# EAGLE library part VNH3SP30 (library parts)
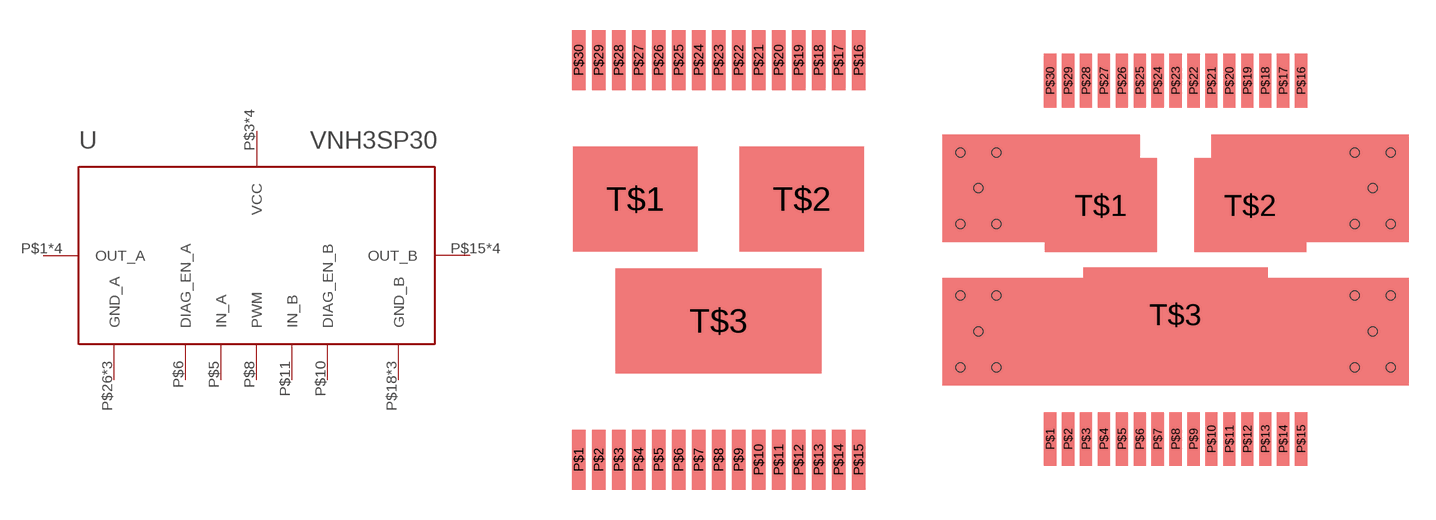
[diagram p2: symbol with the pads of MULTIPOWER-SO-30; footprints MULTIPOWER-SO-30, MULTIPOWER-SO-30-SINK]

Designator prefix -

## VNH3SP30-E  [MULTIPOWER-SO-30]
P$1  OUT_A
P$3  VCC
P$5  IN_A
P$6  DIAG_EN_A
P$8  PWM
P$10  DIAG_EN_B
P$11  IN_B
P$13  VCC
P$15  OUT_B
P$16  OUT_B
P$18  GND_B
P$19  GND_B
P$20  GND_B
P$21  OUT_B
P$23  VCC
P$25  OUT_A
P$26  GND_A
P$27  GND_A
P$28  GND_A
P$30  OUT_A
T$1  OUT_A
T$2  OUT_B
T$3  VCC

## VNH3SP30-E-SINKED  [MULTIPOWER-SO-30-SINK]
Pads as for MULTIPOWER-SO-30

## Footprint MULTIPOWER-SO-30 (pad centres in mm)
smd 0.68 x 3: P$1 -7,-10; P$2 -6,-10; P$3 -5,-10; P$4 -4,-10; P$5 -3,-10; P$6 -2,-10; P$7 -1,-10; P$8 0,-10; P$9 1,-10; P$10 2,-10; P$11 3,-10; P$12 4,-10; P$13 5,-10; P$14 6,-10; P$15 7,-10; P$16 7,10; P$17 6,10; P$18 5,10; P$19 4,10; P$20 3,10; P$21 2,10; P$22 1,10; P$23 0,10; P$24 -1,10; P$25 -2,10; P$26 -3,10; P$27 -4,10; P$28 -5,10; P$29 -6,10; P$30 -7,10
smd 6.23 x 5.25: T$1 -4.165,3.05; T$2 4.165,3.05
smd 10.3 x 5.25: T$3 0,-3.05

## Footprint MULTIPOWER-SO-30-SINK (pad centres in mm)
smd 0.68 x 3: P$1 -7,-10; P$2 -6,-10; P$3 -5,-10; P$4 -4,-10; P$5 -3,-10; P$6 -2,-10; P$7 -1,-10; P$8 0,-10; P$9 1,-10; P$10 2,-10; P$11 3,-10; P$12 4,-10; P$13 5,-10; P$14 6,-10; P$15 7,-10; P$16 7,10; P$17 6,10; P$18 5,10; P$19 4,10; P$20 3,10; P$21 2,10; P$22 1,10; P$23 0,10; P$24 -1,10; P$25 -2,10; P$26 -3,10; P$27 -4,10; P$28 -5,10; P$29 -6,10; P$30 -7,10
smd 6.23 x 5.25: T$1 -4.165,3.05; T$2 4.165,3.05
smd 10.3 x 5.25: T$3 0,-3.05
hole 0.5 at -12,6
hole 0.5 at -11,4
hole 0.5 at -12,2
hole 0.5 at -12,-2
hole 0.5 at -11,-4
hole 0.5 at -12,-6
hole 0.5 at 12,-6
hole 0.5 at 11,-4
hole 0.5 at 12,-2
hole 0.5 at 12,2
hole 0.5 at 11,4
hole 0.5 at 12,6
hole 0.5 at 10,2
hole 0.5 at 10,6
hole 0.5 at 10,-2
hole 0.5 at 10,-6
hole 0.5 at -10,-6
hole 0.5 at -10,-2
hole 0.5 at -10,2
hole 0.5 at -10,6